# EAGLE library part BMI160 (library FaBo-Mems)
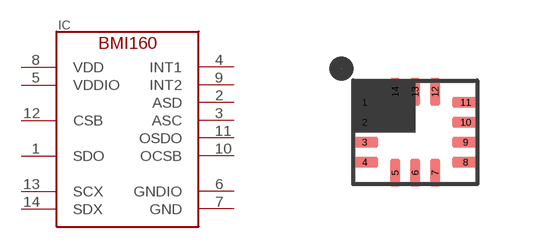
[diagram p43: symbol with the pads of BMI160; footprint BMI160]

Designator prefix IC

## BMI160  [BMI160]
1  SDO
2  ASD
3  ASC
4  INT1
5  VDDIO
6  GNDIO
7  GND
8  VDD
9  INT2
10  OCSB
11  OSDO
12  CSB
13  SCX
14  SDX

## Footprint BMI160 (pad centres in mm)
smd 0.675 x 0.25: 1 -1.262,0.75; 2 -1.262,0.25; 3 -1.262,-0.25; 4 -1.262,-0.75; 8 1.262,-0.75; 9 1.262,-0.25; 10 1.262,0.25; 11 1.262,0.75
smd 0.25 x 0.675: 5 -0.5,-1.012; 6 0,-1.012; 7 0.5,-1.012; 12 0.5,1.012; 13 0,1.012; 14 -0.5,1.012